# EAGLE library part AD536AJH (library analog-devices)
ANALOG DEVICES
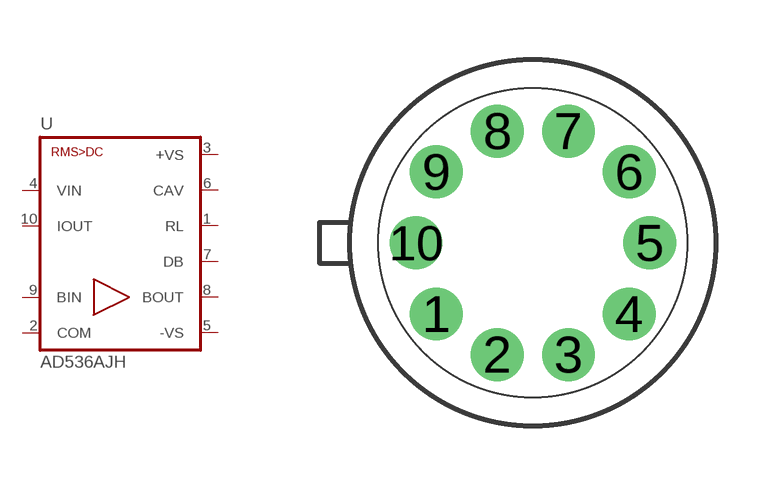
[diagram p10: symbol with the pads of TO100; footprint TO100]

Designator prefix U

## AD536AJH  [TO100]
1  RL  pas
2  COM  pwr
3  +VS  pwr
4  VIN  in
5  -VS  pwr
6  CAV  out
7  DB  out
8  BOUT  out
9  BIN  in
10  IOUT  out

## Footprint TO100 (pad centres in mm)
Metal Can Package
drill 0.813: 1 -2.413,-1.778; 2 -0.889,-2.794; 3 0.889,-2.794; 4 2.413,-1.778; 5 2.921,0; 6 2.413,1.778; 7 0.889,2.794; 8 -0.889,2.794; 9 -2.413,1.778; 10 -2.921,0